# EAGLE library part AD9837 (library analog-devices)
IC WAVEFORM GEN PROG
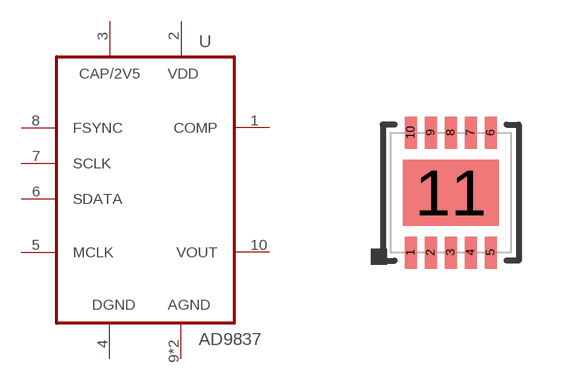
[diagram p90: symbol with the pads of LFCSP10_WD; footprint LFCSP10_WD]

Designator prefix U

## AD9837  [LFCSP10_WD]
1  COMP  pas
2  VDD  pwr
3  CAP/2V5  pas
4  DGND  pwr
5  MCLK  in
6  SDATA  in
7  SCLK  in
8  FSYNC  in
9  AGND  pwr
10  VOUT  out
11  AGND  pwr

## Footprint LFCSP10_WD (pad centres in mm)
Lead Frame Chip Scale Package 10-Lead Lead Frame Chip Scale Package [LFCSP_WD]
smd 0.3 x 0.8: 1 -1,-1.5; 2 -0.5,-1.5; 3 0,-1.5; 4 0.5,-1.5; 5 1,-1.5; 6 1,1.5; 7 0.5,1.5; 8 0,1.5; 9 -0.5,1.5; 10 -1,1.5
smd 2.4 x 1.65: 11 0,0